# Altium footprint library XT90PWF.PcbLib: 1 footprints
Each footprint in its own frame and in the unit in brackets; x right, y up, seen from the top. Pads: shape width x height; smd on the part's side, far side on the other; paste and mask are expansions set on the pad; w line width, h text height; cw(c..) or ccw(c..) is an arc to the next point about the centre after c.
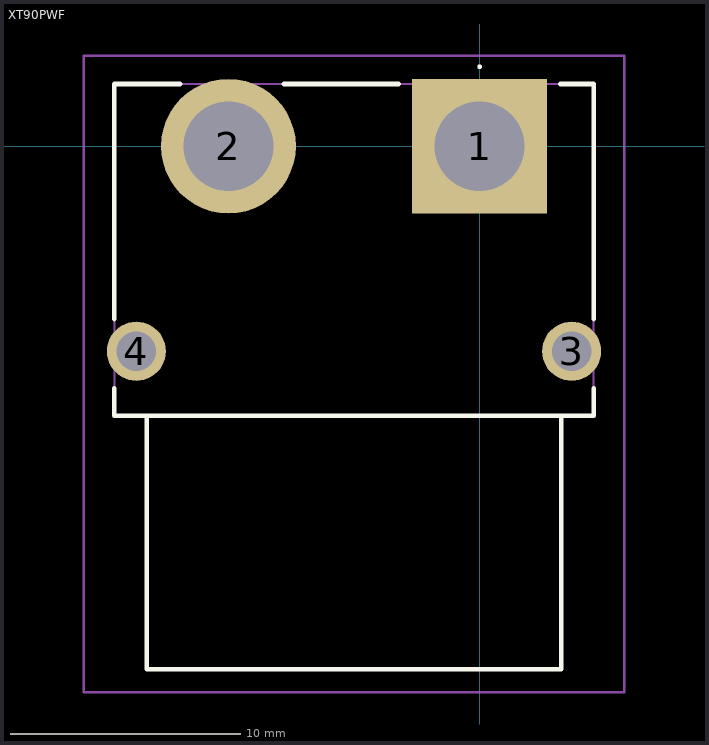
[diagram p0: the footprint, top view; thin cyan lines are the x and y axes]

## XT90PWF [mm]
pads (4):
  rect 5.85x5.85 hole 3.9: 1(0,0)
  round 5.85 hole 3.9: 2(-10.9,0)
  round 2.565 hole 1.71: 3(4,-8.9) 4(-14.9,-8.9)
Top Overlay:
  lines w0.1: 0,3.4 0,3.4 ; 0,3.4 ccw(c0,3.45) 0,3.5 ; 0,3.4 cw(c0,3.45) 0,3.5 ; 0,3.5 0,3.5
  lines w0.2: -15.851,-10.5 -15.851,-11.7 4.95,-11.7 4.95,-10.5 ; -15.851,-7.5 -15.851,2.7 -13,2.7 ; -14.45,-11.7 -14.45,-22.7 3.55,-22.7 3.55,-11.7 ; -8.5,2.7 -3.5,2.7 ; 3.5,2.7 4.95,2.7 4.95,-7.5
Mechanical 15:
  lines w0.1: -14.45,-11.7 -14.45,-22.7 3.55,-22.7 3.55,-11.7 ; -15.851,-11.7 -15.851,2.7 4.95,2.7 4.95,-11.7 -15.851,-11.7
Mechanical 20:
  lines w0.1: -17.183,-23.7 -17.183,3.925 6.282,3.925 6.282,-23.7 -17.183,-23.7